# EAGLE library part TCA965B (library opamps)
TCA965B: Window discriminator (Siemens)
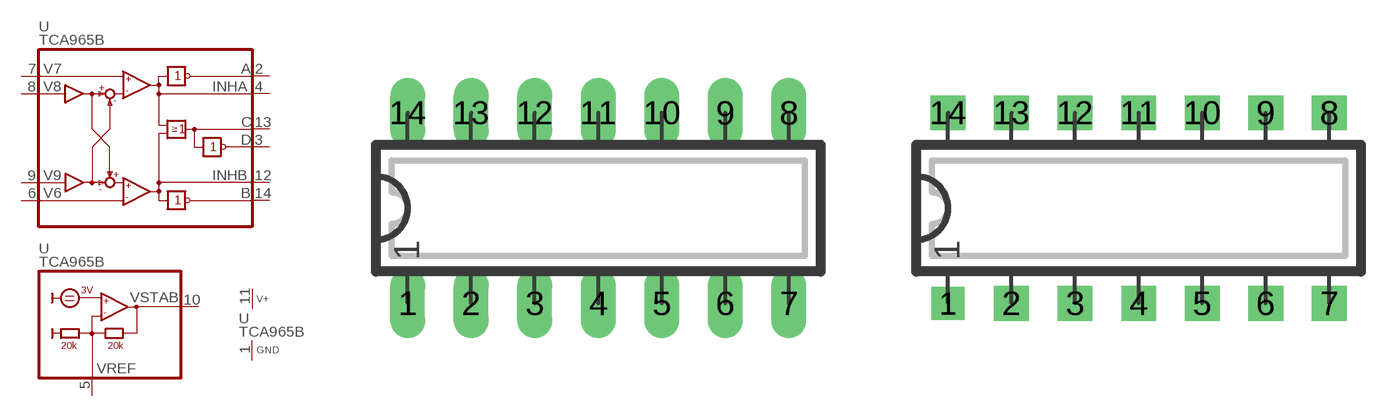
[diagram p229: symbol with the pads of DIP14L; footprints DIP14L, DIP14R]

Designator prefix -; gates A=TCA965-1 B=TCA965-2 P=V+GND

## TCA965B  [DIP14L]
1  P:GND  pwr
2  A:A  oc
3  A:D  oc
4  A:INHA
5  B:VREF
6  A:V6  in
7  A:V7  in
8  A:V8  in
9  A:V9  in
10  B:VSTAB  out
11  P:V+  pwr
12  A:INHB
13  A:C  oc
14  A:B  oc

## TCA965BL  [DIP14L]
Pads as for DIP14L

## TCA965BR  [DIP14R]
Pads as for DIP14L

## TCA965BN  [DIP14N]
Pads as for DIP14L

## Footprint DIP14L (pad centres in mm)
DIP-14, long pads Standard IC package, 14 pins
drill 0.813 pad 1.397 long: 1 -7.62,-3.81; 2 -5.08,-3.81; 3 -2.54,-3.81; 4 0,-3.81; 5 2.54,-3.81; 6 5.08,-3.81; 7 7.62,-3.81; 8 7.62,3.81; 9 5.08,3.81; 10 2.54,3.81; 11 0,3.81; 12 -2.54,3.81; 13 -5.08,3.81; 14 -7.62,3.81

## Footprint DIP14R (pad centres in mm)
DIP-14, reduced pads Standard IC package, 14 pins
drill 0.813 pad 1.27 square: 1 -7.62,-3.81
drill 0.813 pad 1.397 square: 2 -5.08,-3.81; 3 -2.54,-3.81; 4 0,-3.81; 5 2.54,-3.81; 6 5.08,-3.81; 7 7.62,-3.81; 8 7.62,3.81; 9 5.08,3.81; 10 2.54,3.81; 11 0,3.81; 12 -2.54,3.81; 13 -5.08,3.81; 14 -7.62,3.81

## Footprint DIP14N (pad centres in mm)
DIP-14 Standard IC package, 14 pins
drill 0.813 pad 2.032 octagon: 1 -7.62,-3.81; 2 -5.08,-3.81; 3 -2.54,-3.81; 4 0,-3.81; 5 2.54,-3.81; 6 5.08,-3.81; 7 7.62,-3.81; 8 7.62,3.81; 9 5.08,3.81; 10 2.54,3.81; 11 0,3.81; 12 -2.54,3.81; 13 -5.08,3.81; 14 -7.62,3.81